# Altium footprint library LED.PcbLib: 4 footprints
Each footprint in its own frame and in the unit in brackets; x right, y up, seen from the top. Pads: shape width x height; smd on the part's side, far side on the other; paste and mask are expansions set on the pad; w line width, h text height; cw(c..) or ccw(c..) is an arc to the next point about the centre after c.
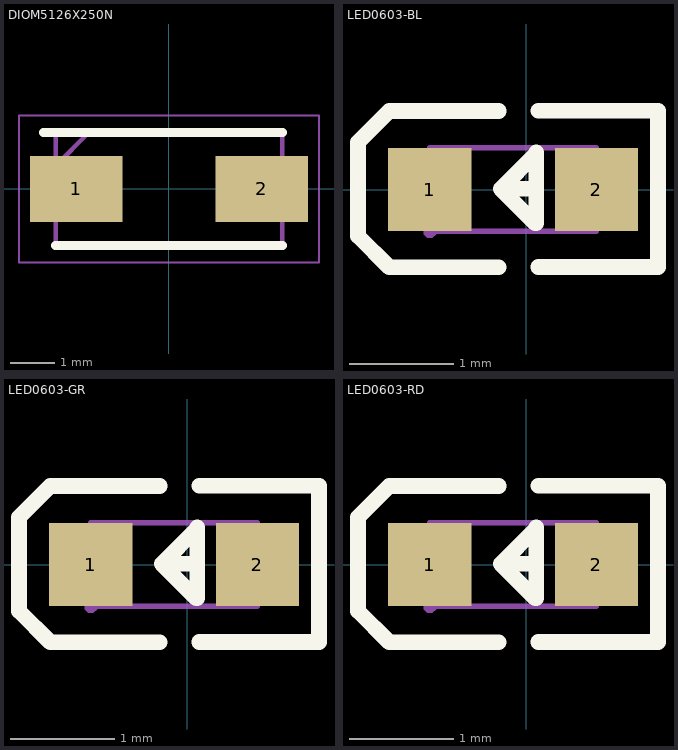
[diagram p0: the footprints below, top view; thin cyan lines are the x and y axes]

## DIOM5126X250N [mm]
pads (2):
  rect 2.1x1.5 smd: 1(-2.1,0) 2(2.1,0)
Top Overlay:
  lines w0.2: -2.85,1.28 2.57,1.28 ; -2.57,-1.28 2.57,-1.28
Mechanical 15:
  lines w0.1: -2.57,0.53 -1.82,1.28 ; -2.57,-1.28 -2.57,1.28 2.57,1.28 2.57,-1.28 -2.57,-1.28
Mechanical 20:
  lines w0.05: -3.4,-1.665 -3.4,1.665 3.4,1.665 3.4,-1.665 -3.4,-1.665
3D body "SS14.stp": height 2.5, standoff 0, extent -2.443,-1.28 2.697,1.28

## LED0603-BL [mm]
pads (2):
  rect 0.8x0.8 smd: 1(-0.926,0) 2(0.672,0)
Top Overlay:
  lines w0.15: -0.267,-0.746 -1.317,-0.746 -1.617,-0.446 -1.617,-0.346 -1.617,0.354 -1.617,0.454 -1.317,0.754 -0.267,0.754 ; 0.093,0.007 -0.247,0.007 ; 0.113,-0.744 1.263,-0.744 ; 0.113,0.757 1.263,0.757 1.263,-0.723 ; -0.247,0.007 0.093,0.347 0.093,0.357 0.093,-0.324 0.083,-0.324 -0.247,0.007
Mechanical 6:
  region: 0.402,0.068 0.942,0.068 0.942,-0.062 0.402,-0.062
  region: 0.608,-0.267 0.608,0.273 0.738,0.273 0.738,-0.267
  region: -1.197,0.062 -0.657,0.062 -0.657,-0.068 -1.197,-0.068
Mechanical 15:
  region: 0.373,-0.396 0.373,0.404 0.673,0.404 0.673,-0.396
  region: -0.927,-0.403 -0.927,0.397 -0.627,0.397 -0.627,-0.403
  region: -0.866,-0.403 -0.866,-0.428 -0.902,-0.463 -0.951,-0.463 -0.986,-0.428 -0.986,-0.403 -0.986,-0.379 -0.951,-0.344 -0.902,-0.344 -0.866,-0.379 -0.866,-0.403
  lines w0.051: -0.927,-0.4 0.673,-0.4 0.673,0.4 -0.927,0.4 -0.927,-0.4
3D body "LED 0603 SMD-BLUE.STEP": height 0.53, standoff -0.01, extent -0.927,-0.4 0.673,0.4

## LED0603-GR [mm]
pads (2):
  rect 0.8x0.8 smd: 1(-0.926,0) 2(0.672,0)
Top Overlay:
  lines w0.15: -0.267,-0.746 -1.317,-0.746 -1.617,-0.446 -1.617,-0.346 -1.617,0.354 -1.617,0.454 -1.317,0.754 -0.267,0.754 ; 0.093,0.007 -0.247,0.007 ; 0.113,-0.744 1.263,-0.744 ; 0.113,0.757 1.263,0.757 1.263,-0.723 ; -0.247,0.007 0.093,0.347 0.093,0.357 0.093,-0.324 0.083,-0.324 -0.247,0.007
Mechanical 6:
  region: 0.402,0.068 0.942,0.068 0.942,-0.062 0.402,-0.062
  region: 0.608,-0.267 0.608,0.273 0.738,0.273 0.738,-0.267
  region: -1.197,0.062 -0.657,0.062 -0.657,-0.068 -1.197,-0.068
Mechanical 15:
  region: 0.373,-0.396 0.373,0.404 0.673,0.404 0.673,-0.396
  region: -0.927,-0.403 -0.927,0.397 -0.627,0.397 -0.627,-0.403
  region: -0.866,-0.403 -0.866,-0.428 -0.902,-0.463 -0.951,-0.463 -0.986,-0.428 -0.986,-0.403 -0.986,-0.379 -0.951,-0.344 -0.902,-0.344 -0.866,-0.379 -0.866,-0.403
  lines w0.051: -0.927,-0.4 0.673,-0.4 0.673,0.4 -0.927,0.4 -0.927,-0.4
3D body "LED 0603 SMD-GREEN.STEP": height 0.53, standoff -0.01, extent -0.927,-0.4 0.673,0.4

## LED0603-RD [mm]
pads (2):
  rect 0.8x0.8 smd: 1(-0.926,0) 2(0.672,0)
Top Overlay:
  lines w0.15: -0.267,-0.746 -1.317,-0.746 -1.617,-0.446 -1.617,-0.346 -1.617,0.354 -1.617,0.454 -1.317,0.754 -0.267,0.754 ; 0.093,0.007 -0.247,0.007 ; 0.113,-0.744 1.263,-0.744 ; 0.113,0.757 1.263,0.757 1.263,-0.723 ; -0.247,0.007 0.083,-0.324 0.093,-0.324 0.093,0.357 0.093,0.347 -0.247,0.007
Mechanical 6:
  region: -1.197,0.062 -0.657,0.062 -0.657,-0.068 -1.197,-0.068
  region: 0.608,-0.267 0.608,0.273 0.738,0.273 0.738,-0.267
  region: 0.402,0.068 0.942,0.068 0.942,-0.062 0.402,-0.062
Mechanical 15:
  region: -0.866,-0.403 -0.866,-0.428 -0.902,-0.463 -0.951,-0.463 -0.986,-0.428 -0.986,-0.403 -0.986,-0.379 -0.951,-0.344 -0.902,-0.344 -0.866,-0.379 -0.866,-0.403
  region: -0.927,-0.403 -0.927,0.397 -0.627,0.397 -0.627,-0.403
  region: 0.373,-0.396 0.373,0.404 0.673,0.404 0.673,-0.396
  lines w0.051: -0.927,-0.4 -0.927,0.4 0.673,0.4 0.673,-0.4 -0.927,-0.4
3D body "LED 0603 SMD-RED-c.STEP": height 0.53, standoff -0.01, extent -0.927,-0.381 0.673,0.419